# EAGLE library part TYPE-_BREAKOUT (library 0_Library Rev1)
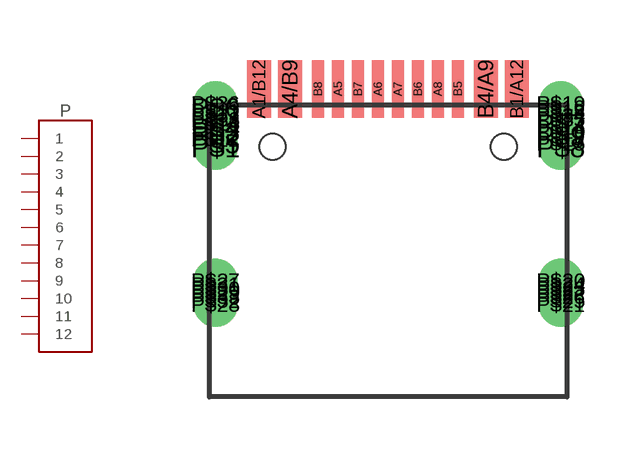
[diagram p9: symbol with the pads of TYPE-C; footprint TYPE-C]

Designator prefix P

## TYPE-_BREAKOUT  [TYPE-C]
A1/B12  1  pas
A4/B9  2  pas
A5  4  pas
A6  6  pas
A7  7  pas
A8  9  pas
B1/A12  12  pas
B4/A9  11  pas
B5  10  pas
B6  8  pas
B7  5  pas
B8  3  pas
P$1  1  pas
P$2  1  pas
P$3  1  pas
P$4  1  pas
P$5  1  pas
P$6  1  pas
P$7  1  pas
P$8  1  pas
P$9  1  pas
P$10  1  pas
P$11  1  pas
P$12  1  pas
P$13  1  pas
P$14  1  pas
P$15  1  pas
P$16  1  pas
P$17  1  pas
P$18  1  pas
P$19  1  pas
P$20  1  pas
P$21  1  pas
P$22  1  pas
P$23  1  pas
P$24  1  pas
P$25  1  pas
P$26  1  pas
P$27  1  pas
P$28  1  pas
P$29  1  pas
P$30  1  pas
P$31  1  pas
P$32  1  pas
P$33  1  pas
P$34  1  pas
P$35  1  pas
P$36  1  pas
P$37  1  pas
P$38  1  pas

## Footprint TYPE-C (pad centres in mm)
smd 0.6 x 1.45: A1/B12 -3.225,7.695; A4/B9 -2.45,7.695; B1/A12 3.225,7.695; B4/A9 2.45,7.695
smd 0.3 x 1.45: A5 -1.25,7.695; A6 -0.25,7.695; A7 0.25,7.695; A8 1.25,7.695; B5 1.75,7.695; B6 0.75,7.695; B7 -0.75,7.695; B8 -1.75,7.695
drill 0.6 pad 1: P$1 -4.32,6.23; P$2 -4.32,6.53; P$3 -4.32,6.63; P$4 -4.32,6.73; P$5 -4.32,6.33; P$6 -4.32,7.23; P$7 4.32,6.83; P$8 4.32,6.23; P$9 4.32,6.53; P$10 4.32,6.63; P$11 -4.32,7.13; P$12 -4.32,6.43; P$13 -4.32,6.83; P$14 4.32,6.73; P$15 4.32,6.33; P$16 4.32,7.23; P$17 4.32,6.43; P$18 4.32,7.13; P$19 4.32,7.33; P$20 4.32,2.9; P$21 4.32,2.3; P$22 4.32,2.6; P$23 4.32,2.7; P$24 4.32,2.8; P$25 4.32,2.4; P$26 4.32,2.5; P$27 -4.32,2.9; P$28 -4.32,2.3; P$29 -4.32,2.6; P$30 -4.32,2.7; P$31 -4.32,2.8; P$32 -4.32,2.4; P$33 -4.32,2.5; P$34 4.32,7.03; P$35 4.32,6.93; P$36 -4.32,7.33; P$37 -4.32,7.03; P$38 -4.32,6.93
hole 0.65 at -2.89,6.25
hole 0.65 at 2.89,6.25